# EAGLE library part DMC2038LVT (library ics)
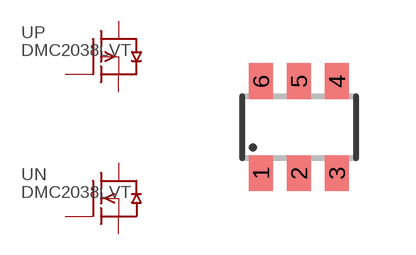
[diagram p3: symbol with the pads of SOT23-6; footprint SOT23-6]

Designator prefix -; gates N=IGFET-EN-GDS P=IGFET-EP-GDS

## DMC2038LVT  [SOT23-6]
1  N:G  pas
2  P:S  pas
3  P:G  pas
4  P:D  pas
5  N:S  pas
6  N:D  pas

## Footprint SOT23-6 (pad centres in mm)
Small Outline Transistor 6 lead
smd 0.6 x 0.9: 1 -0.95,-1.15; 2 0,-1.15; 3 0.95,-1.15; 4 0.95,1.15; 5 0,1.15; 6 -0.95,1.15